# EAGLE library part MAX31855 (library max31855)
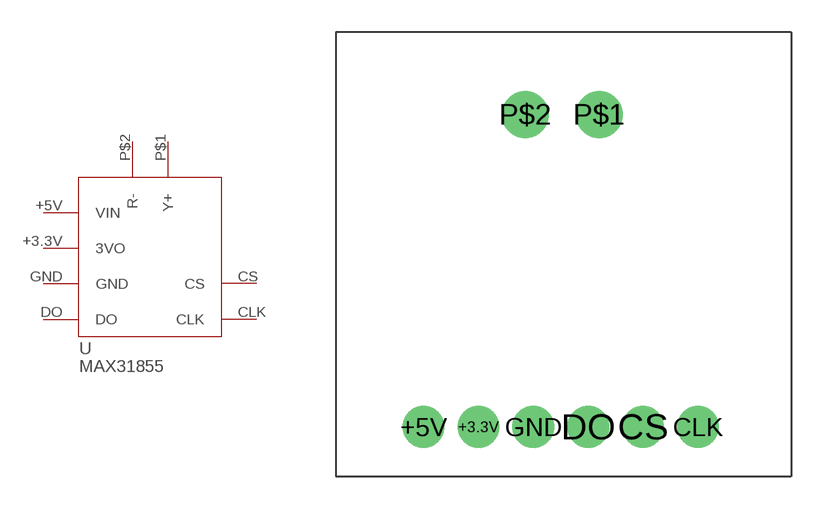
[diagram p0: symbol with the pads of MAX31855-BREAKOUT; footprint MAX31855-BREAKOUT]

Designator prefix -

## MAX31855  [MAX31855-BREAKOUT]
+3.3V  3VO  out
+5V  VIN  in
CLK  CLK  in
CS  CS  in
DO  DO  out
GND  GND  in
P$1  Y+
P$2  R-

## Footprint MAX31855-BREAKOUT (pad centres in mm)
drill 1 pad 1.93: +3.3V 6.35,2.032; +5V 3.81,2.032; CLK 16.51,2.032; CS 13.97,2.032; DO 11.43,2.032; GND 8.89,2.032
drill 1 pad 2.184: P$1 11.938,16.51; P$2 8.509,16.51